# Altium schematic symbol library Voltage Regulators.SchLib: 6 symbols
Pins are listed as number, name and electrical type; pins without a type are passive.

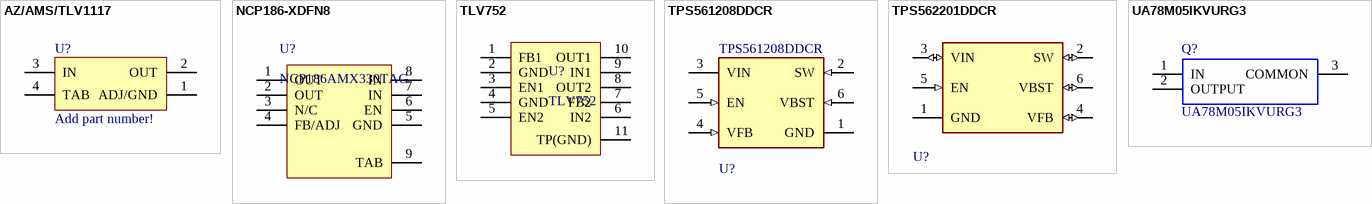
[diagram p0: symbols AZ/AMS/TLV1117 to UA78M05IKVURG3]

## AZ/AMS/TLV1117
designator U?, comment Add part number!
1000/800mA Low-Dropout Linear Regulator, 4-pin SOT-223; Part Number: Add part number!
footprint 1117_A (SOT223, 4-Leads, Body 6.50x7.00mm (avg), Pitch 2.30mm, IPC Low Density)
footprint 1117_B (SOT223, 4-Leads, Body 6.50x7.00mm (avg), Pitch 2.30mm, IPC Medium Density)
footprint 1117_C (SOT223, 4-Leads, Body 6.50x7.00mm (avg), Pitch 2.30mm, IPC High Density)
pins: 1 ADJ/GND (power), 2 OUT (power), 3 IN (power), 4 TAB (power)

## NCP186-XDFN8
designator U?, comment NCP186AMX330TAG
The NCP186x series are CMOS LDO regulators featuring 1 A / output current. The input voltage is as low as 1.8 V and the output / voltage can be set from 0.8 V.; Part Number: NCP186AMX330TAG
footprint NCP186-XDFN8 (The NCP186x series are CMOS LDO regulators featuring 1 A  output current. The input voltage is as low as 1.8 V and the output  voltage can be set from 0.8 V)
footprint NCP186-XDFN8-0.15clearance (The NCP186x series are CMOS LDO regulators featuring 1 A  output current. The input voltage is as low as 1.8 V and the output  voltage can be set from 0.8 V)
pins: 1 OUT, 2 OUT, 3 N/C, 4 FB/ADJ, 5 GND, 6 EN, 7 IN, 8 IN, 9 TAB

## TLV752
designator U?
footprint TLV752_B (SON, 10-Leads, Body 2.00x2.00mm, Pitch 0.40mm, Thermal Pad 1.50x0.69mm, IPC Medium Density)
footprint TLV752_A (SON, 10-Leads, Body 2.00x2.00mm, Pitch 0.40mm, Thermal Pad 1.50x0.69mm, IPC Low Density)
footprint TLV752_C (SON, 10-Leads, Body 2.00x2.00mm, Pitch 0.40mm, Thermal Pad 1.50x0.69mm, IPC High Density)
pins: 1 FB1, 2 GND, 3 EN1, 4 GND, 5 EN2, 6 IN2, 7 FB2, 8 OUT2, 9 IN1, 10 OUT1, 11 TP(GND)

## TPS561208DDCR
designator U?
4.5V to 17V Input, 1A Output, Synchronous Step-Down Converter 6-SOT-23-THIN -40 to 85
footprint Texas_Instruments_DDC0006A_0
pins: 1 GND (power), 2 SW (in), 3 VIN (power), 4 VFB (in), 5 EN (in), 6 VBST (in)

## TPS562201DDCR
designator U?  (value not drawn)
Conv DC-DC 4.5V to 17V Synchronous Step Down Single-Out 0.76V to 7V 2A 6-Pin TSOT-23 T/R
footprint Texas_Instruments_DDC0006A_IPC_A
footprint Texas_Instruments_DDC0006A_IPC_B
footprint Texas_Instruments_DDC0006A_IPC_C
footprint Texas_Instruments_DDC0006A_MFG
pins: 1 GND (power), 2 SW (io), 3 VIN (io), 4 VFB (io), 5 EN (in), 6 VBST (io)

## UA78M05IKVURG3
designator Q?
500-mA, 25-V, Linear Voltage Regulators; Manufacturer_Name: Texas Instruments; Manufacturer_Part_Number: UA78M05IKVURG3; RS Part Number: *; RS Price/Stock: *; Mouser Part Number: 595-UA78M05IKVURG3; Mouser Price/Stock: https://www.mouser.com/Search/Refine.aspx?Keyword=595-UA78M05IKVURG3; Datasheet Link: http://www.ti.com/lit/gpn/ua78m
footprint KVU0003A
pins: 1 IN, 2 OUTPUT, 3 COMMON